# Altium footprint library LTC3531ES6-3.PcbLib: 2 footprints
Each footprint in its own frame and in the unit in brackets; x right, y up, seen from the top. Pads: shape width x height; smd on the part's side, far side on the other; paste and mask are expansions set on the pad; w line width, h text height; cw(c..) or ccw(c..) is an arc to the next point about the centre after c.
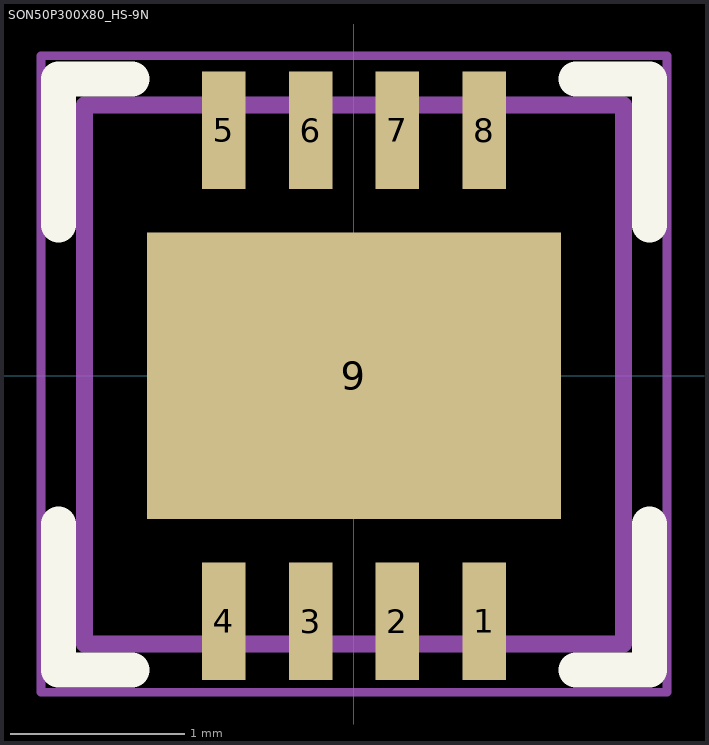
[diagram p0: the footprints below, top view; thin cyan lines are the x and y axes]

## SON50P300X80_HS-9N [mm] "SON, 8-Leads, Body 3.00x3.00mm, Pitch 0.50mm, Thermal Pad 2.38x1.12mm, IPC Medium Density"
height 0.8
pads (9):
  rect 0.25x0.675 smd: 1(0.75,-1.412) 2(0.25,-1.412) 3(-0.25,-1.412) 4(-0.75,-1.412) 5(-0.75,1.412) 6(-0.25,1.412) 7(0.25,1.412) 8(0.75,1.412)
  rect 2.38x1.65 smd: 9(0,0)
Top Overlay:
  lines w0.2: -1.7,-0.853 -1.7,-1.693 -1.275,-1.693 ; -1.7,0.867 -1.7,1.707 -1.275,1.707 ; 1.275,-1.693 1.7,-1.693 1.7,-0.853 ; 1.275,1.707 1.7,1.707 1.7,0.867
Mechanical 13:
  lines w0.1: -1.55,-1.543 -1.55,1.557 1.55,1.557 1.55,-1.543 -1.55,-1.543
Mechanical 15:
  lines w0.05: -1.8,-1.82 -1.8,1.84 1.8,1.84 1.8,-1.82 -1.8,-1.82
  lines w0.1: -0.5,0.007 0.5,0.007 ; 0,-0.493 0,0.507
3D body: height 0.8, standoff 0.05, extent -1.55,-1.543 1.55,1.557

## TSOT-23_S6 [mm]